# Altium footprint library leadic_footp.PcbLib: 46 footprints (part 3 of 3)
Each footprint in its own frame and in the unit in brackets; x right, y up, seen from the top. Pads: shape width x height; smd on the part's side, far side on the other; paste and mask are expansions set on the pad; w line width, h text height; cw(c..) or ccw(c..) is an arc to the next point about the centre after c.
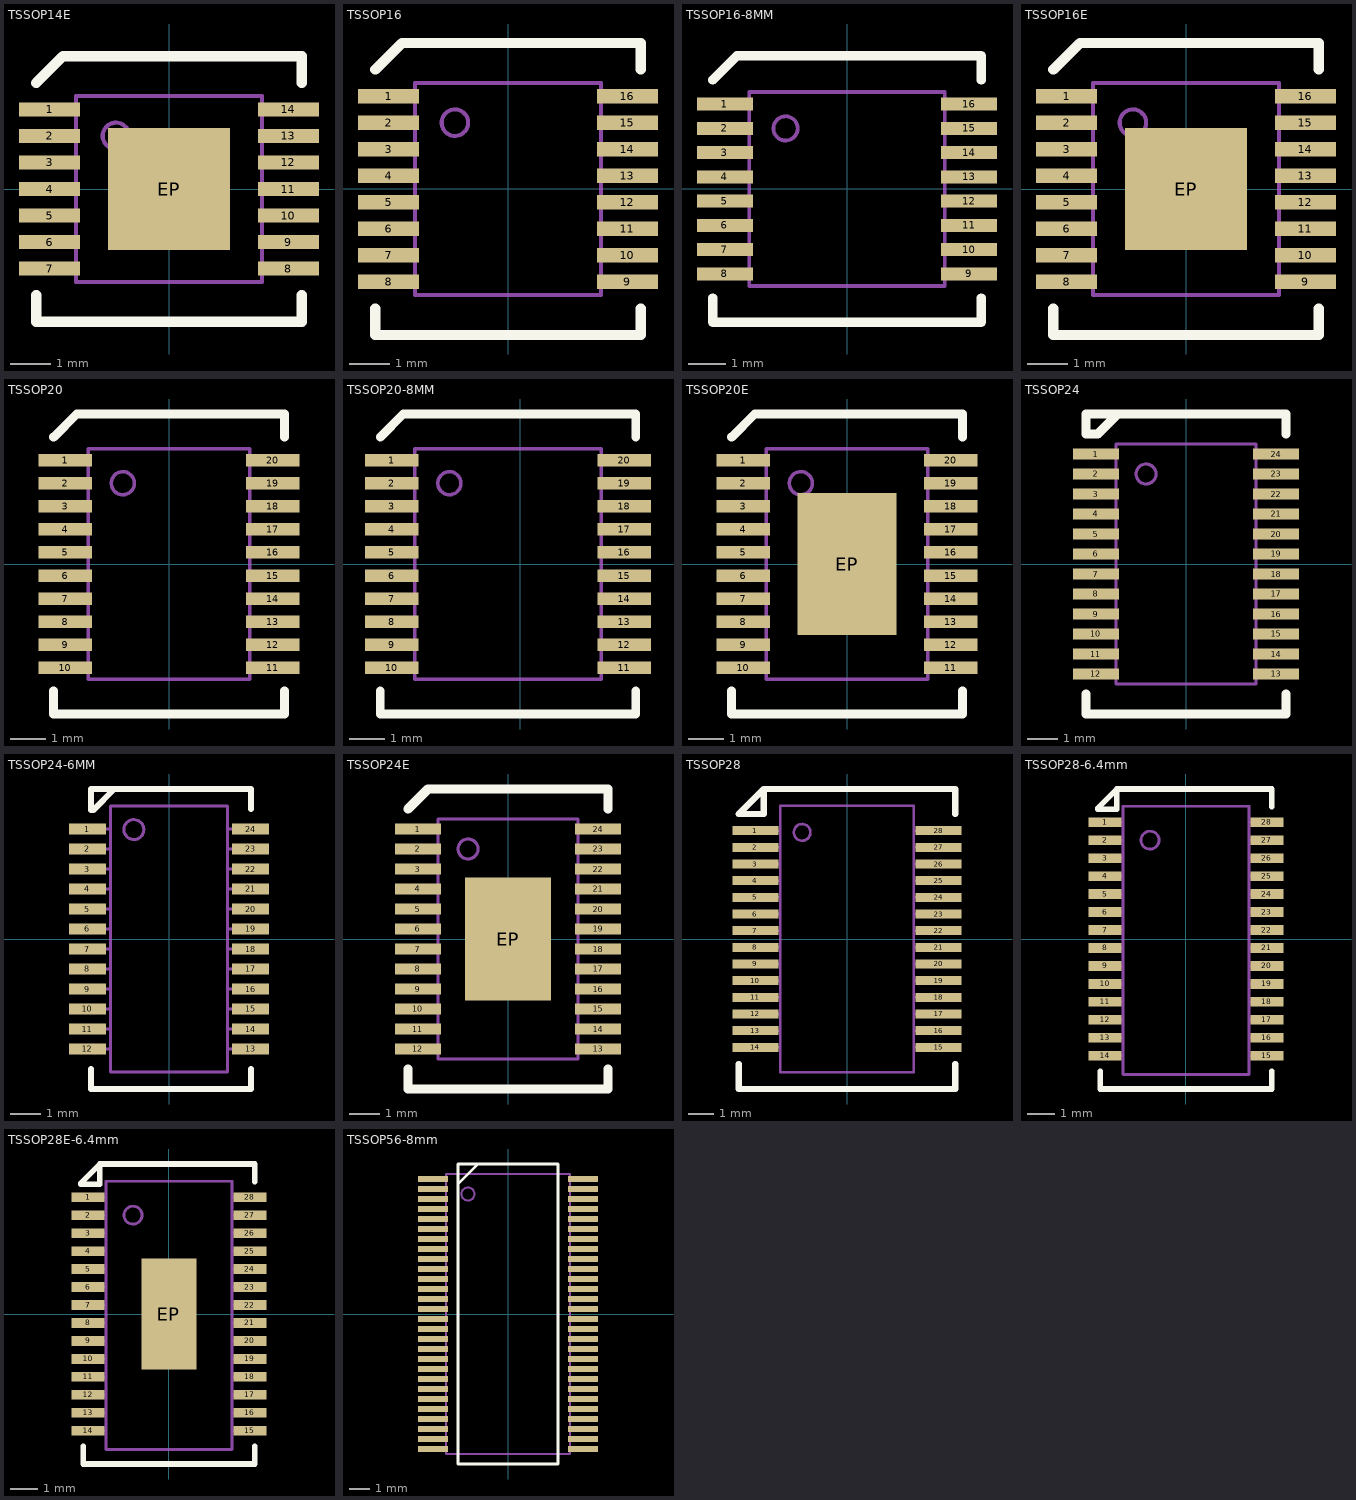
[diagram p2: the footprints below, top view; thin cyan lines are the x and y axes]

## TSSOP14E [mm] "0.65mm pitch"
height 1.2
pads (15):
  rect 1.5x0.35 smd: 1(-2.925,1.95) 2(-2.925,1.3) 3(-2.925,0.65) 4(-2.925,0) 5(-2.925,-0.65) 6(-2.925,-1.3) 7(-2.925,-1.95) 8(2.925,-1.95) 9(2.925,-1.3) 10(2.925,-0.65) 11(2.925,0) 12(2.925,0.65) 13(2.925,1.3) 14(2.925,1.95)
  rect 3x3 smd paste-0.8: EP(0,0)
Top Overlay:
  lines w0.25: -3.25,-2.6 -3.25,-3.25 3.25,-3.25 3.25,-2.6 ; -3.25,2.6 -2.6,3.25 3.25,3.25 3.25,2.6
Mechanical 1:
  circle w0.1: c-1.3,1.3 r0.325
  lines w0.1: -3.25,-1.95 -2.275,-1.95 ; -3.25,-1.3 -2.275,-1.3 ; -3.25,-0.65 -2.275,-0.65 ; -3.25,0 -2.275,0 ; -3.25,0.65 -2.275,0.65 ; -3.25,1.3 -2.275,1.3 ; -3.25,1.95 -2.275,1.95 ; 2.275,-1.95 3.25,-1.95 ; 2.275,-1.3 3.25,-1.3 ; 2.275,-0.65 3.25,-0.65 ; 2.275,0 3.25,0 ; 2.275,0.65 3.25,0.65 ; 2.275,1.3 3.25,1.3 ; 2.275,1.95 3.25,1.95 ; -2.275,-2.275 -2.275,2.275 2.275,2.275 2.275,-2.275 -2.275,-2.275
3D body: height 0.75, standoff 0, extent -3.35,-2.05 -1.652,-1.85
3D body: height 0.75, standoff 0, extent 1.652,-2.05 3.35,-1.85
3D body: height 0.75, standoff 0, extent -3.35,-0.75 -1.652,-0.55
3D body: height 0.75, standoff 0, extent 1.652,-0.75 3.35,-0.55
3D body: height 0.75, standoff 0, extent 1.652,-1.4 3.35,-1.2
3D body: height 0.75, standoff 0, extent -3.35,-1.4 -1.652,-1.2
3D body: height 0.75, standoff 0, extent -3.35,0.55 -1.652,0.75
3D body: height 0.75, standoff 0, extent 1.652,0.55 3.35,0.75
3D body: height 0.75, standoff 0, extent 1.652,-0.1 3.35,0.1
3D body: height 0.75, standoff 0, extent -3.35,-0.1 -1.652,0.1
3D body: height 0.75, standoff 0, extent -3.35,1.85 -1.652,2.05
3D body: height 0.75, standoff 0, extent 1.652,1.85 3.35,2.05
3D body: height 0.75, standoff 0, extent 1.652,1.2 3.35,1.4
3D body: height 0.75, standoff 0, extent -3.35,1.2 -1.652,1.4
3D body: height 1.2, standoff 0.1, extent -2.3,-2.3 2.3,2.3

## TSSOP16 [mm] "0.65mm pitch"
height 1.2
pads (16):
  rect 1.5x0.35 smd: 1(-2.925,2.275) 2(-2.925,1.625) 3(-2.925,0.975) 4(-2.925,0.325) 5(-2.925,-0.325) 6(-2.925,-0.975) 7(-2.925,-1.625) 8(-2.925,-2.275) 9(2.925,-2.275) 10(2.925,-1.625) 11(2.925,-0.975) 12(2.925,-0.325) 13(2.925,0.325) 14(2.925,0.975) 15(2.925,1.625) 16(2.925,2.275)
Top Overlay:
  lines w0.25: -3.25,-2.925 -3.25,-3.575 3.25,-3.575 3.25,-2.925 ; -3.25,2.925 -2.6,3.575 3.25,3.575 3.25,2.925
Mechanical 1:
  circle w0.1: c-1.3,1.625 r0.325
  lines w0.1: -3.25,-2.275 -2.275,-2.275 ; -3.25,-1.625 -2.275,-1.625 ; -3.25,-0.975 -2.275,-0.975 ; -3.25,-0.325 -2.275,-0.325 ; -3.25,0.325 -2.275,0.325 ; -3.25,0.975 -2.275,0.975 ; -3.25,1.625 -2.275,1.625 ; -3.25,2.275 -2.275,2.275 ; 2.275,-2.275 3.25,-2.275 ; 2.275,-1.625 3.25,-1.625 ; 2.275,-0.975 3.25,-0.975 ; 2.275,-0.325 3.25,-0.325 ; 2.275,0.325 3.25,0.325 ; 2.275,0.975 3.25,0.975 ; 2.275,1.625 3.25,1.625 ; 2.275,2.275 3.25,2.275 ; -2.275,-2.6 -2.275,2.6 2.275,2.6 2.275,-2.6 -2.275,-2.6
3D body: height 0.75, standoff 0, extent 1.652,2.175 3.35,2.375
3D body: height 0.75, standoff 0, extent -3.35,2.175 -1.652,2.375
3D body: height 0.75, standoff 0, extent -3.35,0.875 -1.652,1.075
3D body: height 0.75, standoff 0, extent 1.652,0.875 3.35,1.075
3D body: height 0.75, standoff 0, extent 1.652,1.525 3.35,1.725
3D body: height 0.75, standoff 0, extent -3.35,1.525 -1.652,1.725
3D body: height 0.75, standoff 0, extent -3.35,-0.425 -1.652,-0.225
3D body: height 0.75, standoff 0, extent 1.652,-0.425 3.35,-0.225
3D body: height 0.75, standoff 0, extent 1.652,0.225 3.35,0.425
3D body: height 0.75, standoff 0, extent -3.35,0.225 -1.652,0.425
3D body: height 0.75, standoff 0, extent -3.35,-1.725 -1.652,-1.525
3D body: height 0.75, standoff 0, extent 1.652,-1.725 3.35,-1.525
3D body: height 0.75, standoff 0, extent 1.652,-1.075 3.35,-0.875
3D body: height 0.75, standoff 0, extent -3.35,-1.075 -1.652,-0.875
3D body: height 0.75, standoff 0, extent 1.652,-2.375 3.35,-2.175
3D body: height 0.75, standoff 0, extent -3.35,-2.375 -1.652,-2.175
3D body: height 1.2, standoff 0.1, extent -2.3,-2.6 2.3,2.6

## TSSOP16-8MM [mm] "0.65mm pitch"
height 1.2
pads (16):
  rect 1.5x0.35 smd: 1(-3.275,2.275) 2(-3.275,1.625) 3(-3.275,0.975) 4(-3.275,0.325) 5(-3.275,-0.325) 6(-3.275,-0.975) 7(-3.275,-1.625) 8(-3.275,-2.275) 9(3.275,-2.275) 10(3.275,-1.625) 11(3.275,-0.975) 12(3.275,-0.325) 13(3.275,0.325) 14(3.275,0.975) 15(3.275,1.625) 16(3.275,2.275)
Top Overlay:
  lines w0.25: -3.6,-2.925 -3.6,-3.575 3.6,-3.575 3.6,-2.925 ; -3.6,2.925 -2.95,3.575 3.6,3.575 3.6,2.925
Mechanical 1:
  circle w0.1: c-1.65,1.625 r0.325
  lines w0.1: -3.6,-2.275 -2.625,-2.275 ; -3.6,-1.625 -2.625,-1.625 ; -3.6,-0.975 -2.625,-0.975 ; -3.6,-0.325 -2.625,-0.325 ; -3.6,0.325 -2.625,0.325 ; -3.6,0.975 -2.625,0.975 ; -3.6,1.625 -2.625,1.625 ; -3.6,2.275 -2.625,2.275 ; 2.625,-2.275 3.6,-2.275 ; 2.625,-1.625 3.6,-1.625 ; 2.625,-0.975 3.6,-0.975 ; 2.625,-0.325 3.6,-0.325 ; 2.625,0.325 3.6,0.325 ; 2.625,0.975 3.6,0.975 ; 2.625,1.625 3.6,1.625 ; 2.625,2.275 3.6,2.275 ; -2.625,-2.6 2.625,-2.6 2.625,2.6 -2.625,2.6 -2.625,-2.6
3D body: height 1.2, standoff 0.1, extent -2.65,-2.6 2.65,2.6
3D body: height 0.75, standoff 0, extent -3.7,-2.375 -2.002,-2.175
3D body: height 0.75, standoff 0, extent 2.002,-2.375 3.7,-2.175
3D body: height 0.75, standoff 0, extent -3.7,-1.075 -2.002,-0.875
3D body: height 0.75, standoff 0, extent 2.002,-1.075 3.7,-0.875
3D body: height 0.75, standoff 0, extent 2.002,-1.725 3.7,-1.525
3D body: height 0.75, standoff 0, extent -3.7,-1.725 -2.002,-1.525
3D body: height 0.75, standoff 0, extent -3.7,0.225 -2.002,0.425
3D body: height 0.75, standoff 0, extent 2.002,0.225 3.7,0.425
3D body: height 0.75, standoff 0, extent 2.002,-0.425 3.7,-0.225
3D body: height 0.75, standoff 0, extent -3.7,-0.425 -2.002,-0.225
3D body: height 0.75, standoff 0, extent -3.7,1.525 -2.002,1.725
3D body: height 0.75, standoff 0, extent 2.002,1.525 3.7,1.725
3D body: height 0.75, standoff 0, extent 2.002,0.875 3.7,1.075
3D body: height 0.75, standoff 0, extent -3.7,0.875 -2.002,1.075
3D body: height 0.75, standoff 0, extent -3.7,2.175 -2.002,2.375
3D body: height 0.75, standoff 0, extent 2.002,2.175 3.7,2.375

## TSSOP16E [mm] "0.65mm pitch"
height 1.2
pads (17):
  rect 1.5x0.35 smd: 1(-2.925,2.275) 2(-2.925,1.625) 3(-2.925,0.975) 4(-2.925,0.325) 5(-2.925,-0.325) 6(-2.925,-0.975) 7(-2.925,-1.625) 8(-2.925,-2.275) 9(2.925,-2.275) 10(2.925,-1.625) 11(2.925,-0.975) 12(2.925,-0.325) 13(2.925,0.325) 14(2.925,0.975) 15(2.925,1.625) 16(2.925,2.275)
  rect 3x3 smd paste-0.8: EP(0,0)
Top Overlay:
  lines w0.25: -3.25,-2.925 -3.25,-3.575 3.25,-3.575 3.25,-2.925 ; -3.25,2.925 -2.6,3.575 3.25,3.575 3.25,2.925
Mechanical 1:
  circle w0.1: c-1.3,1.625 r0.325
  lines w0.1: -3.25,-2.275 -2.275,-2.275 ; -3.25,-1.625 -2.275,-1.625 ; -3.25,-0.975 -2.275,-0.975 ; -3.25,-0.325 -2.275,-0.325 ; -3.25,0.325 -2.275,0.325 ; -3.25,0.975 -2.275,0.975 ; -3.25,1.625 -2.275,1.625 ; -3.25,2.275 -2.275,2.275 ; 2.275,-2.275 3.25,-2.275 ; 2.275,-1.625 3.25,-1.625 ; 2.275,-0.975 3.25,-0.975 ; 2.275,-0.325 3.25,-0.325 ; 2.275,0.325 3.25,0.325 ; 2.275,0.975 3.25,0.975 ; 2.275,1.625 3.25,1.625 ; 2.275,2.275 3.25,2.275 ; -2.275,-2.6 2.275,-2.6 2.275,2.6 -2.275,2.6 -2.275,-2.6
3D body: height 0.75, standoff 0, extent 1.652,2.175 3.35,2.375
3D body: height 0.75, standoff 0, extent -3.35,2.175 -1.652,2.375
3D body: height 0.75, standoff 0, extent -3.35,0.875 -1.652,1.075
3D body: height 0.75, standoff 0, extent 1.652,0.875 3.35,1.075
3D body: height 0.75, standoff 0, extent 1.652,1.525 3.35,1.725
3D body: height 0.75, standoff 0, extent -3.35,1.525 -1.652,1.725
3D body: height 0.75, standoff 0, extent -3.35,-0.425 -1.652,-0.225
3D body: height 0.75, standoff 0, extent 1.652,-0.425 3.35,-0.225
3D body: height 0.75, standoff 0, extent 1.652,0.225 3.35,0.425
3D body: height 0.75, standoff 0, extent -3.35,0.225 -1.652,0.425
3D body: height 0.75, standoff 0, extent -3.35,-1.725 -1.652,-1.525
3D body: height 0.75, standoff 0, extent 1.652,-1.725 3.35,-1.525
3D body: height 0.75, standoff 0, extent 1.652,-1.075 3.35,-0.875
3D body: height 0.75, standoff 0, extent -3.35,-1.075 -1.652,-0.875
3D body: height 0.75, standoff 0, extent 1.652,-2.375 3.35,-2.175
3D body: height 0.75, standoff 0, extent -3.35,-2.375 -1.652,-2.175
3D body: height 1.2, standoff 0.1, extent -2.3,-2.6 2.3,2.6

## TSSOP20 [mm] "0.65mm pitch"
height 1.2
pads (20):
  rect 1.5x0.35 smd: 1(-2.925,2.925) 2(-2.925,2.275) 3(-2.925,1.625) 4(-2.925,0.975) 5(-2.925,0.325) 6(-2.925,-0.325) 7(-2.925,-0.975) 8(-2.925,-1.625) 9(-2.925,-2.275) 10(-2.925,-2.925) 11(2.925,-2.925) 12(2.925,-2.275) 13(2.925,-1.625) 14(2.925,-0.975) 15(2.925,-0.325) 16(2.925,0.325) 17(2.925,0.975) 18(2.925,1.625) 19(2.925,2.275) 20(2.925,2.925)
Top Overlay:
  lines w0.25: -3.25,-3.575 -3.25,-4.225 3.25,-4.225 3.25,-3.575 ; -3.25,3.575 -2.6,4.225 3.25,4.225 3.25,3.575
Mechanical 1:
  circle w0.1: c-1.3,2.275 r0.325
  lines w0.1: -3.25,-2.925 -2.275,-2.925 ; -3.25,-2.275 -2.275,-2.275 ; -3.25,-1.625 -2.275,-1.625 ; -3.25,-0.975 -2.275,-0.975 ; -3.25,-0.325 -2.275,-0.325 ; -3.25,0.325 -2.275,0.325 ; -3.25,0.975 -2.275,0.975 ; -3.25,1.625 -2.275,1.625 ; -3.25,2.275 -2.275,2.275 ; -3.25,2.925 -2.275,2.925 ; 2.275,-2.925 3.25,-2.925 ; 2.275,-2.275 3.25,-2.275 ; 2.275,-1.625 3.25,-1.625 ; 2.275,-0.975 3.25,-0.975 ; 2.275,-0.325 3.25,-0.325 ; 2.275,0.325 3.25,0.325 ; 2.275,0.975 3.25,0.975 ; 2.275,1.625 3.25,1.625 ; 2.275,2.275 3.25,2.275 ; 2.275,2.925 3.25,2.925 ; -2.275,-3.25 2.275,-3.25 2.275,3.25 -2.275,3.25 -2.275,-3.25
3D body: height 1.2, standoff 0.1, extent -2.3,-3.3 2.3,3.3
3D body: height 0.75, standoff 0, extent -3.35,2.825 -1.652,3.025
3D body: height 0.75, standoff 0, extent 1.652,2.825 3.35,3.025
3D body: height 0.75, standoff 0, extent 1.652,2.175 3.35,2.375
3D body: height 0.75, standoff 0, extent -3.35,2.175 -1.652,2.375
3D body: height 0.75, standoff 0, extent -3.35,0.875 -1.652,1.075
3D body: height 0.75, standoff 0, extent 1.652,0.875 3.35,1.075
3D body: height 0.75, standoff 0, extent 1.652,1.525 3.35,1.725
3D body: height 0.75, standoff 0, extent -3.35,1.525 -1.652,1.725
3D body: height 0.75, standoff 0, extent -3.35,-0.425 -1.652,-0.225
3D body: height 0.75, standoff 0, extent 1.652,-0.425 3.35,-0.225
3D body: height 0.75, standoff 0, extent 1.652,0.225 3.35,0.425
3D body: height 0.75, standoff 0, extent -3.35,0.225 -1.652,0.425
3D body: height 0.75, standoff 0, extent -3.35,-1.725 -1.652,-1.525
3D body: height 0.75, standoff 0, extent 1.652,-1.725 3.35,-1.525
3D body: height 0.75, standoff 0, extent 1.652,-1.075 3.35,-0.875
3D body: height 0.75, standoff 0, extent -3.35,-1.075 -1.652,-0.875
3D body: height 0.75, standoff 0, extent -3.35,-3.025 -1.652,-2.825
3D body: height 0.75, standoff 0, extent 1.652,-3.025 3.35,-2.825
3D body: height 0.75, standoff 0, extent 1.652,-2.375 3.35,-2.175
3D body: height 0.75, standoff 0, extent -3.35,-2.375 -1.652,-2.175

## TSSOP20-8MM [mm] "0.65mm pitch"
height 1.2
pads (20):
  rect 1.5x0.35 smd: 1(-3.625,2.925) 2(-3.625,2.275) 3(-3.625,1.625) 4(-3.625,0.975) 5(-3.625,0.325) 6(-3.625,-0.325) 7(-3.625,-0.975) 8(-3.625,-1.625) 9(-3.625,-2.275) 10(-3.625,-2.925) 11(2.925,-2.925) 12(2.925,-2.275) 13(2.925,-1.625) 14(2.925,-0.975) 15(2.925,-0.325) 16(2.925,0.325) 17(2.925,0.975) 18(2.925,1.625) 19(2.925,2.275) 20(2.925,2.925)
Top Overlay:
  lines w0.25: -3.95,-3.575 -3.95,-4.225 3.25,-4.225 3.25,-3.575 ; -3.95,3.575 -3.3,4.225 3.25,4.225 3.25,3.575
Mechanical 1:
  circle w0.1: c-2,2.275 r0.325
  lines w0.1: -3.95,-2.925 -2.975,-2.925 ; -3.95,-2.275 -2.975,-2.275 ; -3.95,-1.625 -2.975,-1.625 ; -3.95,-0.975 -2.975,-0.975 ; -3.95,-0.325 -2.975,-0.325 ; -3.95,0.325 -2.975,0.325 ; -3.95,0.975 -2.975,0.975 ; -3.95,1.625 -2.975,1.625 ; -3.95,2.275 -2.975,2.275 ; -3.95,2.925 -2.975,2.925 ; 2.275,-2.925 3.25,-2.925 ; 2.275,-2.275 3.25,-2.275 ; 2.275,-1.625 3.25,-1.625 ; 2.275,-0.975 3.25,-0.975 ; 2.275,-0.325 3.25,-0.325 ; 2.275,0.325 3.25,0.325 ; 2.275,0.975 3.25,0.975 ; 2.275,1.625 3.25,1.625 ; 2.275,2.275 3.25,2.275 ; 2.275,2.925 3.25,2.925 ; -2.975,-3.25 2.275,-3.25 2.275,3.25 -2.975,3.25 -2.975,-3.25
3D body: height 0.75, standoff 0, extent 1.652,-2.375 3.35,-2.175
3D body: height 0.75, standoff 0, extent 1.652,-3.025 3.35,-2.825
3D body: height 0.75, standoff 0, extent 1.652,-1.075 3.35,-0.875
3D body: height 0.75, standoff 0, extent 1.652,-1.725 3.35,-1.525
3D body: height 0.75, standoff 0, extent 1.652,0.225 3.35,0.425
3D body: height 0.75, standoff 0, extent 1.652,-0.425 3.35,-0.225
3D body: height 0.75, standoff 0, extent 1.652,1.525 3.35,1.725
3D body: height 0.75, standoff 0, extent 1.652,0.875 3.35,1.075
3D body: height 0.75, standoff 0, extent 1.652,2.175 3.35,2.375
3D body: height 0.75, standoff 0, extent 1.652,2.825 3.35,3.025
3D body: height 0.75, standoff 0, extent -4.05,2.825 -2.352,3.025
3D body: height 0.75, standoff 0, extent -4.05,2.175 -2.352,2.375
3D body: height 0.75, standoff 0, extent -4.05,0.875 -2.352,1.075
3D body: height 0.75, standoff 0, extent -4.05,1.525 -2.352,1.725
3D body: height 0.75, standoff 0, extent -4.05,-0.425 -2.352,-0.225
3D body: height 0.75, standoff 0, extent -4.05,0.225 -2.352,0.425
3D body: height 0.75, standoff 0, extent -4.05,-1.725 -2.352,-1.525
3D body: height 0.75, standoff 0, extent -4.05,-1.075 -2.352,-0.875
3D body: height 0.75, standoff 0, extent -4.05,-3.025 -2.352,-2.825
3D body: height 0.75, standoff 0, extent -4.05,-2.375 -2.352,-2.175
3D body: height 1.2, standoff 0.1, extent -3,-3.3 2.3,3.3

## TSSOP20E [mm] "0.65mm pitch"
height 1.2
pads (21):
  rect 1.5x0.35 smd: 1(-2.925,2.925) 2(-2.925,2.275) 3(-2.925,1.625) 4(-2.925,0.975) 5(-2.925,0.325) 6(-2.925,-0.325) 7(-2.925,-0.975) 8(-2.925,-1.625) 9(-2.925,-2.275) 10(-2.925,-2.925) 11(2.925,-2.925) 12(2.925,-2.275) 13(2.925,-1.625) 14(2.925,-0.975) 15(2.925,-0.325) 16(2.925,0.325) 17(2.925,0.975) 18(2.925,1.625) 19(2.925,2.275) 20(2.925,2.925)
  rect 2.8x4 smd paste-0.8: EP(0,0)
Top Overlay:
  lines w0.25: -3.25,-3.575 -3.25,-4.225 3.25,-4.225 3.25,-3.575 ; -3.25,3.575 -2.6,4.225 3.25,4.225 3.25,3.575
Mechanical 1:
  circle w0.1: c-1.3,2.275 r0.325
  lines w0.1: -3.25,-2.925 -2.275,-2.925 ; -3.25,-2.275 -2.275,-2.275 ; -3.25,-1.625 -2.275,-1.625 ; -3.25,-0.975 -2.275,-0.975 ; -3.25,-0.325 -2.275,-0.325 ; -3.25,0.325 -2.275,0.325 ; -3.25,0.975 -2.275,0.975 ; -3.25,1.625 -2.275,1.625 ; -3.25,2.275 -2.275,2.275 ; -3.25,2.925 -2.275,2.925 ; 2.275,-2.925 3.25,-2.925 ; 2.275,-2.275 3.25,-2.275 ; 2.275,-1.625 3.25,-1.625 ; 2.275,-0.975 3.25,-0.975 ; 2.275,-0.325 3.25,-0.325 ; 2.275,0.325 3.25,0.325 ; 2.275,0.975 3.25,0.975 ; 2.275,1.625 3.25,1.625 ; 2.275,2.275 3.25,2.275 ; 2.275,2.925 3.25,2.925 ; -2.275,-3.25 2.275,-3.25 2.275,3.25 -2.275,3.25 -2.275,-3.25
3D body: height 0.75, standoff 0, extent -3.35,-2.375 -1.652,-2.175
3D body: height 0.75, standoff 0, extent 1.652,-2.375 3.35,-2.175
3D body: height 0.75, standoff 0, extent 1.652,-3.025 3.35,-2.825
3D body: height 0.75, standoff 0, extent -3.35,-3.025 -1.652,-2.825
3D body: height 0.75, standoff 0, extent -3.35,-1.075 -1.652,-0.875
3D body: height 0.75, standoff 0, extent 1.652,-1.075 3.35,-0.875
3D body: height 0.75, standoff 0, extent 1.652,-1.725 3.35,-1.525
3D body: height 0.75, standoff 0, extent -3.35,-1.725 -1.652,-1.525
3D body: height 0.75, standoff 0, extent -3.35,0.225 -1.652,0.425
3D body: height 0.75, standoff 0, extent 1.652,0.225 3.35,0.425
3D body: height 0.75, standoff 0, extent 1.652,-0.425 3.35,-0.225
3D body: height 0.75, standoff 0, extent -3.35,-0.425 -1.652,-0.225
3D body: height 0.75, standoff 0, extent -3.35,1.525 -1.652,1.725
3D body: height 0.75, standoff 0, extent 1.652,1.525 3.35,1.725
3D body: height 0.75, standoff 0, extent 1.652,0.875 3.35,1.075
3D body: height 0.75, standoff 0, extent -3.35,0.875 -1.652,1.075
3D body: height 0.75, standoff 0, extent -3.35,2.175 -1.652,2.375
3D body: height 0.75, standoff 0, extent 1.652,2.175 3.35,2.375
3D body: height 0.75, standoff 0, extent 1.652,2.825 3.35,3.025
3D body: height 0.75, standoff 0, extent -3.35,2.825 -1.652,3.025
3D body: height 1.2, standoff 0.1, extent -2.3,-3.3 2.3,3.3

## TSSOP24 [mm] "0.65mm pitch"
height 1.2
pads (24):
  rect 1.5x0.35 smd: 1(-2.925,3.575) 2(-2.925,2.925) 3(-2.925,2.275) 4(-2.925,1.625) 5(-2.925,0.975) 6(-2.925,0.325) 7(-2.925,-0.325) 8(-2.925,-0.975) 9(-2.925,-1.625) 10(-2.925,-2.275) 11(-2.925,-2.925) 12(-2.925,-3.575) 13(2.925,-3.575) 14(2.925,-2.925) 15(2.925,-2.275) 16(2.925,-1.625) 17(2.925,-0.975) 18(2.925,-0.325) 19(2.925,0.325) 20(2.925,0.975) 21(2.925,1.625) 22(2.925,2.275) 23(2.925,2.925) 24(2.925,3.575)
Top Overlay:
  lines w0.3: -3.25,-4.225 -3.25,-4.875 3.25,-4.875 3.25,-4.225 ; -2.6,4.875 3.25,4.875 3.25,4.225 ; -2.54,4.875 -3.253,4.875 -3.25,4.872 -3.25,4.225 -2.869,4.225 -2.219,4.875
Mechanical 1:
  circle w0.1: c-1.3,2.925 r0.325
  lines w0.1: -3.25,-3.575 -2.275,-3.575 ; -3.25,-2.925 -2.275,-2.925 ; -3.25,-2.275 -2.275,-2.275 ; -3.25,-1.625 -2.275,-1.625 ; -3.25,-0.975 -2.275,-0.975 ; -3.25,-0.325 -2.275,-0.325 ; -3.25,0.325 -2.275,0.325 ; -3.25,0.975 -2.275,0.975 ; -3.25,1.625 -2.275,1.625 ; -3.25,2.275 -2.275,2.275 ; -3.25,2.925 -2.275,2.925 ; -3.25,3.575 -2.275,3.575 ; 2.275,-3.575 3.25,-3.575 ; 2.275,-2.925 3.25,-2.925 ; 2.275,-2.275 3.25,-2.275 ; 2.275,-1.625 3.25,-1.625 ; 2.275,-0.975 3.25,-0.975 ; 2.275,-0.325 3.25,-0.325 ; 2.275,0.325 3.25,0.325 ; 2.275,0.975 3.25,0.975 ; 2.275,1.625 3.25,1.625 ; 2.275,2.275 3.25,2.275 ; 2.275,2.925 3.25,2.925 ; 2.275,3.575 3.25,3.575 ; -2.275,-3.9 -2.275,3.9 2.275,3.9 2.275,-3.9 -2.275,-3.9
3D body: height 1.2, standoff 0.1, extent -2.3,-3.9 2.3,3.9
3D body: height 0.75, standoff 0, extent 1.652,-3.675 3.35,-3.475
3D body: height 0.75, standoff 0, extent -3.35,-3.675 -1.652,-3.475
3D body: height 0.75, standoff 0, extent 1.652,3.475 3.35,3.675
3D body: height 0.75, standoff 0, extent -3.35,3.475 -1.652,3.675
3D body: height 0.75, standoff 0, extent -3.35,2.825 -1.652,3.025
3D body: height 0.75, standoff 0, extent 1.652,2.825 3.35,3.025
3D body: height 0.75, standoff 0, extent 1.652,2.175 3.35,2.375
3D body: height 0.75, standoff 0, extent -3.35,2.175 -1.652,2.375
3D body: height 0.75, standoff 0, extent -3.35,0.875 -1.652,1.075
3D body: height 0.75, standoff 0, extent 1.652,0.875 3.35,1.075
3D body: height 0.75, standoff 0, extent 1.652,1.525 3.35,1.725
3D body: height 0.75, standoff 0, extent -3.35,1.525 -1.652,1.725
3D body: height 0.75, standoff 0, extent -3.35,-0.425 -1.652,-0.225
3D body: height 0.75, standoff 0, extent 1.652,-0.425 3.35,-0.225
3D body: height 0.75, standoff 0, extent 1.652,0.225 3.35,0.425
3D body: height 0.75, standoff 0, extent -3.35,0.225 -1.652,0.425
3D body: height 0.75, standoff 0, extent -3.35,-1.725 -1.652,-1.525
3D body: height 0.75, standoff 0, extent 1.652,-1.725 3.35,-1.525
3D body: height 0.75, standoff 0, extent 1.652,-1.075 3.35,-0.875
3D body: height 0.75, standoff 0, extent -3.35,-1.075 -1.652,-0.875
3D body: height 0.75, standoff 0, extent -3.35,-3.025 -1.652,-2.825
3D body: height 0.75, standoff 0, extent 1.652,-3.025 3.35,-2.825
3D body: height 0.75, standoff 0, extent 1.652,-2.375 3.35,-2.175
3D body: height 0.75, standoff 0, extent -3.35,-2.375 -1.652,-2.175

## TSSOP24-6MM [mm] "0.65mm pitch"
height 1.2
pads (24):
  rect 1.2x0.35 smd: 1(-2.65,3.575) 2(-2.65,2.925) 3(-2.65,2.275) 4(-2.65,1.625) 5(-2.65,0.975) 6(-2.65,0.325) 7(-2.65,-0.325) 8(-2.65,-0.975) 9(-2.65,-1.625) 10(-2.65,-2.275) 11(-2.65,-2.925) 12(-2.65,-3.575) 13(2.65,-3.575) 14(2.65,-2.925) 15(2.65,-2.275) 16(2.65,-1.625) 17(2.65,-0.975) 18(2.65,-0.325) 19(2.65,0.325) 20(2.65,0.975) 21(2.65,1.625) 22(2.65,2.275) 23(2.65,2.925) 24(2.65,3.575)
Top Overlay:
  lines w0.2: -2.54,-4.225 -2.54,-4.875 2.667,-4.875 2.667,-4.225 ; -2.54,4.191 -2.462,4.191 -1.778,4.875 ; -2.54,4.225 -2.54,4.875 2.667,4.875 2.667,4.225
Mechanical 1:
  circle w0.1: c-1.143,3.556 r0.325
  lines w0.1: -2.88,-3.575 -1.905,-3.575 ; -2.88,-2.925 -1.905,-2.925 ; -2.88,-2.275 -1.905,-2.275 ; -2.88,-1.625 -1.905,-1.625 ; -2.88,-0.975 -1.905,-0.975 ; -2.88,-0.325 -1.905,-0.325 ; -2.88,0.325 -1.905,0.325 ; -2.88,0.975 -1.905,0.975 ; -2.88,1.625 -1.905,1.625 ; -2.88,2.275 -1.905,2.275 ; -2.88,2.925 -1.905,2.925 ; -2.88,3.575 -1.905,3.575 ; 1.905,-3.575 2.88,-3.575 ; 1.905,-2.925 2.88,-2.925 ; 1.905,-2.275 2.88,-2.275 ; 1.905,-1.625 2.88,-1.625 ; 1.905,-0.975 2.88,-0.975 ; 1.905,-0.325 2.88,-0.325 ; 1.905,0.325 2.88,0.325 ; 1.905,0.975 2.88,0.975 ; 1.905,1.625 2.88,1.625 ; 1.905,2.275 2.88,2.275 ; 1.905,2.925 2.88,2.925 ; 1.905,3.575 2.88,3.575 ; -1.905,-4.318 1.905,-4.318 1.905,4.318 -1.905,4.318 -1.905,-4.318
3D body: height 0.75, standoff 0, extent -2.969,-2.375 -1.271,-2.175
3D body: height 0.75, standoff 0, extent 1.271,-2.375 2.969,-2.175
3D body: height 0.75, standoff 0, extent 1.271,-3.025 2.969,-2.825
3D body: height 0.75, standoff 0, extent -2.969,-3.025 -1.271,-2.825
3D body: height 0.75, standoff 0, extent -2.969,-1.075 -1.271,-0.875
3D body: height 0.75, standoff 0, extent 1.271,-1.075 2.969,-0.875
3D body: height 0.75, standoff 0, extent 1.271,-1.725 2.969,-1.525
3D body: height 0.75, standoff 0, extent -2.969,-1.725 -1.271,-1.525
3D body: height 0.75, standoff 0, extent -2.969,0.225 -1.271,0.425
3D body: height 0.75, standoff 0, extent 1.271,0.225 2.969,0.425
3D body: height 0.75, standoff 0, extent 1.271,-0.425 2.969,-0.225
3D body: height 0.75, standoff 0, extent -2.969,-0.425 -1.271,-0.225
3D body: height 0.75, standoff 0, extent -2.969,1.525 -1.271,1.725
3D body: height 0.75, standoff 0, extent 1.271,1.525 2.969,1.725
3D body: height 0.75, standoff 0, extent 1.271,0.875 2.969,1.075
3D body: height 0.75, standoff 0, extent -2.969,0.875 -1.271,1.075
3D body: height 0.75, standoff 0, extent -2.969,2.175 -1.271,2.375
3D body: height 0.75, standoff 0, extent 1.271,2.175 2.969,2.375
3D body: height 0.75, standoff 0, extent 1.271,2.825 2.969,3.025
3D body: height 0.75, standoff 0, extent -2.969,2.825 -1.271,3.025
3D body: height 0.75, standoff 0, extent -2.969,3.475 -1.271,3.675
3D body: height 0.75, standoff 0, extent 1.271,3.475 2.969,3.675
3D body: height 0.75, standoff 0, extent -2.969,-3.675 -1.271,-3.475
3D body: height 0.75, standoff 0, extent 1.271,-3.675 2.969,-3.475
3D body: height 1.2, standoff 0.1, extent -1.905,-4.318 1.905,4.318

## TSSOP24E [mm] "0.65mm pitch"
height 1.2
pads (25):
  rect 1.5x0.35 smd: 1(-2.925,3.575) 2(-2.925,2.925) 3(-2.925,2.275) 4(-2.925,1.625) 5(-2.925,0.975) 6(-2.925,0.325) 7(-2.925,-0.325) 8(-2.925,-0.975) 9(-2.925,-1.625) 10(-2.925,-2.275) 11(-2.925,-2.925) 12(-2.925,-3.575) 13(2.925,-3.575) 14(2.925,-2.925) 15(2.925,-2.275) 16(2.925,-1.625) 17(2.925,-0.975) 18(2.925,-0.325) 19(2.925,0.325) 20(2.925,0.975) 21(2.925,1.625) 22(2.925,2.275) 23(2.925,2.925) 24(2.925,3.575)
  rect 2.8x4 smd paste-0.8: EP(0,0)
Top Overlay:
  lines w0.3: -3.25,-4.225 -3.25,-4.875 3.25,-4.875 3.25,-4.225 ; -3.25,4.225 -2.6,4.875 3.25,4.875 3.25,4.225
Mechanical 1:
  circle w0.1: c-1.3,2.925 r0.325
  lines w0.1: -3.25,-3.575 -2.275,-3.575 ; -3.25,-2.925 -2.275,-2.925 ; -3.25,-2.275 -2.275,-2.275 ; -3.25,-1.625 -2.275,-1.625 ; -3.25,-0.975 -2.275,-0.975 ; -3.25,-0.325 -2.275,-0.325 ; -3.25,0.325 -2.275,0.325 ; -3.25,0.975 -2.275,0.975 ; -3.25,1.625 -2.275,1.625 ; -3.25,2.275 -2.275,2.275 ; -3.25,2.925 -2.275,2.925 ; -3.25,3.575 -2.275,3.575 ; 2.275,-3.575 3.25,-3.575 ; 2.275,-2.925 3.25,-2.925 ; 2.275,-2.275 3.25,-2.275 ; 2.275,-1.625 3.25,-1.625 ; 2.275,-0.975 3.25,-0.975 ; 2.275,-0.325 3.25,-0.325 ; 2.275,0.325 3.25,0.325 ; 2.275,0.975 3.25,0.975 ; 2.275,1.625 3.25,1.625 ; 2.275,2.275 3.25,2.275 ; 2.275,2.925 3.25,2.925 ; 2.275,3.575 3.25,3.575 ; -2.275,-3.9 -2.275,3.9 2.275,3.9 2.275,-3.9 -2.275,-3.9
3D body: height 0.75, standoff 0, extent 1.652,-3.675 3.35,-3.475
3D body: height 0.75, standoff 0, extent -3.35,-3.675 -1.652,-3.475
3D body: height 0.75, standoff 0, extent 1.652,3.475 3.35,3.675
3D body: height 0.75, standoff 0, extent -3.35,3.475 -1.652,3.675
3D body: height 0.75, standoff 0, extent -3.35,2.825 -1.652,3.025
3D body: height 0.75, standoff 0, extent 1.652,2.825 3.35,3.025
3D body: height 0.75, standoff 0, extent 1.652,2.175 3.35,2.375
3D body: height 0.75, standoff 0, extent -3.35,2.175 -1.652,2.375
3D body: height 0.75, standoff 0, extent -3.35,0.875 -1.652,1.075
3D body: height 0.75, standoff 0, extent 1.652,0.875 3.35,1.075
3D body: height 0.75, standoff 0, extent 1.652,1.525 3.35,1.725
3D body: height 0.75, standoff 0, extent -3.35,1.525 -1.652,1.725
3D body: height 0.75, standoff 0, extent -3.35,-0.425 -1.652,-0.225
3D body: height 0.75, standoff 0, extent 1.652,-0.425 3.35,-0.225
3D body: height 0.75, standoff 0, extent 1.652,0.225 3.35,0.425
3D body: height 0.75, standoff 0, extent -3.35,0.225 -1.652,0.425
3D body: height 0.75, standoff 0, extent -3.35,-1.725 -1.652,-1.525
3D body: height 0.75, standoff 0, extent 1.652,-1.725 3.35,-1.525
3D body: height 0.75, standoff 0, extent 1.652,-1.075 3.35,-0.875
3D body: height 0.75, standoff 0, extent -3.35,-1.075 -1.652,-0.875
3D body: height 0.75, standoff 0, extent -3.35,-3.025 -1.652,-2.825
3D body: height 0.75, standoff 0, extent 1.652,-3.025 3.35,-2.825
3D body: height 0.75, standoff 0, extent 1.652,-2.375 3.35,-2.175
3D body: height 0.75, standoff 0, extent -3.35,-2.375 -1.652,-2.175
3D body: height 1.2, standoff 0.1, extent -2.3,-3.9 2.3,3.9

## TSSOP28 [mm] "0.65mm pitch"
height 1.2
pads (28):
  rect 1.8x0.35 smd: 1(-3.575,4.225) 2(-3.575,3.575) 3(-3.575,2.925) 4(-3.575,2.275) 5(-3.575,1.625) 6(-3.575,0.975) 7(-3.575,0.325) 8(-3.575,-0.325) 9(-3.575,-0.975) 10(-3.575,-1.625) 11(-3.575,-2.275) 12(-3.575,-2.925) 13(-3.575,-3.575) 14(-3.575,-4.225) 15(3.575,-4.225) 16(3.575,-3.575) 17(3.575,-2.925) 18(3.575,-2.275) 19(3.575,-1.625) 20(3.575,-0.975) 21(3.575,-0.325) 22(3.575,0.325) 23(3.575,0.975) 24(3.575,1.625) 25(3.575,2.275) 26(3.575,2.925) 27(3.575,3.575) 28(3.575,4.225)
Top Overlay:
  lines w0.25: -4.225,-4.875 -4.225,-5.85 4.225,-5.85 4.225,-4.875 ; 4.225,4.875 4.225,5.85 -3.25,5.85 ; -3.25,5.85 -4.225,4.875 -3.25,4.875 -3.25,5.85
Mechanical 1:
  circle w0.1: c-1.75,4.16 r0.325
  lines w0.1: -3.9,-4.225 -2.6,-4.225 ; -3.9,-3.575 -2.6,-3.575 ; -3.9,-2.925 -2.6,-2.925 ; -3.9,-2.275 -2.6,-2.275 ; -3.9,-1.625 -2.6,-1.625 ; -3.9,-0.975 -2.6,-0.975 ; -3.9,-0.325 -2.6,-0.325 ; -3.9,0.325 -2.6,0.325 ; -3.9,0.975 -2.6,0.975 ; -3.9,1.625 -2.6,1.625 ; -3.9,2.275 -2.6,2.275 ; -3.9,2.925 -2.6,2.925 ; -3.9,3.575 -2.6,3.575 ; -3.9,4.225 -2.6,4.225 ; 2.6,-4.225 3.9,-4.225 ; 2.6,-3.575 3.9,-3.575 ; 2.6,-2.925 3.9,-2.925 ; 2.6,-2.275 3.9,-2.275 ; 2.6,-1.625 3.9,-1.625 ; 2.6,-0.975 3.9,-0.975 ; 2.6,-0.325 3.9,-0.325 ; 2.6,0.325 3.9,0.325 ; 2.6,0.975 3.9,0.975 ; 2.6,1.625 3.9,1.625 ; 2.6,2.275 3.9,2.275 ; 2.6,2.925 3.9,2.925 ; 2.6,3.575 3.9,3.575 ; 2.6,4.225 3.9,4.225 ; -2.6,-5.2 2.6,-5.2 2.6,5.2 -2.6,5.2 -2.6,-5.2
3D body: height 0.75, standoff 0, extent -3.9,-2.375 -2.202,-2.175
3D body: height 0.75, standoff 0, extent 2.202,-2.375 3.9,-2.175
3D body: height 0.75, standoff 0, extent 2.202,-3.025 3.9,-2.825
3D body: height 0.75, standoff 0, extent -3.9,-3.025 -2.202,-2.825
3D body: height 0.75, standoff 0, extent -3.9,-1.075 -2.202,-0.875
3D body: height 0.75, standoff 0, extent 2.202,-1.075 3.9,-0.875
3D body: height 0.75, standoff 0, extent 2.202,-1.725 3.9,-1.525
3D body: height 0.75, standoff 0, extent -3.9,-1.725 -2.202,-1.525
3D body: height 0.75, standoff 0, extent -3.9,0.225 -2.202,0.425
3D body: height 0.75, standoff 0, extent 2.202,0.225 3.9,0.425
3D body: height 0.75, standoff 0, extent 2.202,-0.425 3.9,-0.225
3D body: height 0.75, standoff 0, extent -3.9,-0.425 -2.202,-0.225
3D body: height 0.75, standoff 0, extent -3.9,1.525 -2.202,1.725
3D body: height 0.75, standoff 0, extent 2.202,1.525 3.9,1.725
3D body: height 0.75, standoff 0, extent 2.202,0.875 3.9,1.075
3D body: height 0.75, standoff 0, extent -3.9,0.875 -2.202,1.075
3D body: height 0.75, standoff 0, extent -3.9,2.175 -2.202,2.375
3D body: height 0.75, standoff 0, extent 2.202,2.175 3.9,2.375
3D body: height 0.75, standoff 0, extent 2.202,2.825 3.9,3.025
3D body: height 0.75, standoff 0, extent -3.9,2.825 -2.202,3.025
3D body: height 0.75, standoff 0, extent -3.9,4.125 -2.202,4.325
3D body: height 0.75, standoff 0, extent 2.202,4.125 3.9,4.325
3D body: height 0.75, standoff 0, extent 2.202,3.475 3.9,3.675
3D body: height 0.75, standoff 0, extent -3.9,3.475 -2.202,3.675
3D body: height 0.75, standoff 0, extent -3.9,-3.675 -2.202,-3.475
3D body: height 0.75, standoff 0, extent 2.202,-3.675 3.9,-3.475
3D body: height 0.75, standoff 0, extent 2.202,-4.325 3.9,-4.125
3D body: height 0.75, standoff 0, extent -3.9,-4.325 -2.202,-4.125
3D body: height 1.2, standoff 0.1, extent -2.6,-5.2 2.6,5.2

## TSSOP28-6.4mm [mm] "0.65mm pitch"
height 1.2
pads (28):
  rect 1.2x0.35 smd: 1(-2.925,4.225) 2(-2.925,3.575) 3(-2.925,2.925) 4(-2.925,2.275) 5(-2.925,1.625) 6(-2.925,0.975) 7(-2.925,0.325) 8(-2.925,-0.325) 9(-2.925,-0.975) 10(-2.925,-1.625) 11(-2.925,-2.275) 12(-2.925,-2.925) 13(-2.925,-3.575) 14(-2.925,-4.225) 15(2.925,-4.225) 16(2.925,-3.575) 17(2.925,-2.925) 18(2.925,-2.275) 19(2.925,-1.625) 20(2.925,-0.975) 21(2.925,-0.325) 22(2.925,0.325) 23(2.925,0.975) 24(2.925,1.625) 25(2.925,2.275) 26(2.925,2.925) 27(2.925,3.575) 28(2.925,4.225)
Top Overlay:
  lines w0.2: -3.1,-4.775 -3.1,-5.425 3.1,-5.425 3.1,-4.775 ; 3.1,4.775 3.1,5.425 -2.5,5.425 ; -2.5,5.425 -2.5,5.425 -2.5,4.7 -3.2,4.7 -3.2,4.725 -2.5,5.425
Mechanical 1:
  circle w0.1: c-1.3,3.575 r0.325
  lines w0.1: -3.25,-4.225 -2.275,-4.225 ; -3.25,-3.575 -2.275,-3.575 ; -3.25,-2.925 -2.275,-2.925 ; -3.25,-2.275 -2.275,-2.275 ; -3.25,-1.625 -2.275,-1.625 ; -3.25,-0.975 -2.275,-0.975 ; -3.25,-0.325 -2.275,-0.325 ; -3.25,0.325 -2.275,0.325 ; -3.25,0.975 -2.275,0.975 ; -3.25,1.625 -2.275,1.625 ; -3.25,2.275 -2.275,2.275 ; -3.25,2.925 -2.275,2.925 ; -3.25,3.575 -2.275,3.575 ; -3.25,4.225 -2.275,4.225 ; 2.275,-4.225 3.25,-4.225 ; 2.275,-3.575 3.25,-3.575 ; 2.275,-2.925 3.25,-2.925 ; 2.275,-2.275 3.25,-2.275 ; 2.275,-1.625 3.25,-1.625 ; 2.275,-0.975 3.25,-0.975 ; 2.275,-0.325 3.25,-0.325 ; 2.275,0.325 3.25,0.325 ; 2.275,0.975 3.25,0.975 ; 2.275,1.625 3.25,1.625 ; 2.275,2.275 3.25,2.275 ; 2.275,2.925 3.25,2.925 ; 2.275,3.575 3.25,3.575 ; 2.275,4.225 3.25,4.225 ; -2.275,-4.9 -2.275,4.8 2.275,4.8 2.275,-4.9 -2.275,-4.9
3D body: height 1.2, standoff 0.1, extent -2.2,-4.8 2.2,4.7
3D body: height 0.75, standoff 0, extent -3.25,-4.325 -1.552,-4.125
3D body: height 0.75, standoff 0, extent 1.552,-4.325 3.25,-4.125
3D body: height 0.75, standoff 0, extent -3.25,-3.675 -1.552,-3.475
3D body: height 0.75, standoff 0, extent 1.552,-3.675 3.25,-3.475
3D body: height 0.75, standoff 0, extent 1.552,-3.025 3.25,-2.825
3D body: height 0.75, standoff 0, extent -3.25,-3.025 -1.552,-2.825
3D body: height 0.75, standoff 0, extent 1.552,4.125 3.25,4.325
3D body: height 0.75, standoff 0, extent -3.25,4.125 -1.552,4.325
3D body: height 0.75, standoff 0, extent -3.25,3.475 -1.552,3.675
3D body: height 0.75, standoff 0, extent 1.552,3.475 3.25,3.675
3D body: height 0.75, standoff 0, extent 1.552,2.825 3.25,3.025
3D body: height 0.75, standoff 0, extent -3.25,2.825 -1.552,3.025
3D body: height 0.75, standoff 0, extent -3.25,1.525 -1.552,1.725
3D body: height 0.75, standoff 0, extent 1.552,1.525 3.25,1.725
3D body: height 0.75, standoff 0, extent 1.552,2.175 3.25,2.375
3D body: height 0.75, standoff 0, extent -3.25,2.175 -1.552,2.375
3D body: height 0.75, standoff 0, extent -3.25,0.225 -1.552,0.425
3D body: height 0.75, standoff 0, extent 1.552,0.225 3.25,0.425
3D body: height 0.75, standoff 0, extent 1.552,0.875 3.25,1.075
3D body: height 0.75, standoff 0, extent -3.25,0.875 -1.552,1.075
3D body: height 0.75, standoff 0, extent -3.25,-1.075 -1.552,-0.875
3D body: height 0.75, standoff 0, extent 1.552,-1.075 3.25,-0.875
3D body: height 0.75, standoff 0, extent 1.552,-0.425 3.25,-0.225
3D body: height 0.75, standoff 0, extent -3.25,-0.425 -1.552,-0.225
3D body: height 0.75, standoff 0, extent -3.25,-2.375 -1.552,-2.175
3D body: height 0.75, standoff 0, extent 1.552,-2.375 3.25,-2.175
3D body: height 0.75, standoff 0, extent 1.552,-1.725 3.25,-1.525
3D body: height 0.75, standoff 0, extent -3.25,-1.725 -1.552,-1.525

## TSSOP28E-6.4mm [mm] "0.65mm pitch"
height 1.2
pads (29):
  rect 1.2x0.35 smd: 1(-2.925,4.225) 2(-2.925,3.575) 3(-2.925,2.925) 4(-2.925,2.275) 5(-2.925,1.625) 6(-2.925,0.975) 7(-2.925,0.325) 8(-2.925,-0.325) 9(-2.925,-0.975) 10(-2.925,-1.625) 11(-2.925,-2.275) 12(-2.925,-2.925) 13(-2.925,-3.575) 14(-2.925,-4.225) 15(2.925,-4.225) 16(2.925,-3.575) 17(2.925,-2.925) 18(2.925,-2.275) 19(2.925,-1.625) 20(2.925,-0.975) 21(2.925,-0.325) 22(2.925,0.325) 23(2.925,0.975) 24(2.925,1.625) 25(2.925,2.275) 26(2.925,2.925) 27(2.925,3.575) 28(2.925,4.225)
  rect 2x4 smd paste-0.5: EP(0,0)
Top Overlay:
  lines w0.2: -3.1,-4.775 -3.1,-5.425 3.1,-5.425 3.1,-4.775 ; 3.1,4.775 3.1,5.425 -2.5,5.425 ; -2.5,5.425 -3.2,4.725 -3.2,4.7 -2.5,4.7 -2.5,5.425 -2.5,5.425
Mechanical 1:
  circle w0.1: c-1.3,3.575 r0.325
  lines w0.1: -3.25,-4.225 -2.275,-4.225 ; -3.25,-3.575 -2.275,-3.575 ; -3.25,-2.925 -2.275,-2.925 ; -3.25,-2.275 -2.275,-2.275 ; -3.25,-1.625 -2.275,-1.625 ; -3.25,-0.975 -2.275,-0.975 ; -3.25,-0.325 -2.275,-0.325 ; -3.25,0.325 -2.275,0.325 ; -3.25,0.975 -2.275,0.975 ; -3.25,1.625 -2.275,1.625 ; -3.25,2.275 -2.275,2.275 ; -3.25,2.925 -2.275,2.925 ; -3.25,3.575 -2.275,3.575 ; -3.25,4.225 -2.275,4.225 ; 2.275,-4.225 3.25,-4.225 ; 2.275,-3.575 3.25,-3.575 ; 2.275,-2.925 3.25,-2.925 ; 2.275,-2.275 3.25,-2.275 ; 2.275,-1.625 3.25,-1.625 ; 2.275,-0.975 3.25,-0.975 ; 2.275,-0.325 3.25,-0.325 ; 2.275,0.325 3.25,0.325 ; 2.275,0.975 3.25,0.975 ; 2.275,1.625 3.25,1.625 ; 2.275,2.275 3.25,2.275 ; 2.275,2.925 3.25,2.925 ; 2.275,3.575 3.25,3.575 ; 2.275,4.225 3.25,4.225 ; -2.275,-4.9 2.275,-4.9 2.275,4.8 -2.275,4.8 -2.275,-4.9
3D body: height 0.75, standoff 0, extent -3.25,-1.725 -1.552,-1.525
3D body: height 0.75, standoff 0, extent 1.552,-1.725 3.25,-1.525
3D body: height 0.75, standoff 0, extent 1.552,-2.375 3.25,-2.175
3D body: height 0.75, standoff 0, extent -3.25,-2.375 -1.552,-2.175
3D body: height 0.75, standoff 0, extent -3.25,-0.425 -1.552,-0.225
3D body: height 0.75, standoff 0, extent 1.552,-0.425 3.25,-0.225
3D body: height 0.75, standoff 0, extent 1.552,-1.075 3.25,-0.875
3D body: height 0.75, standoff 0, extent -3.25,-1.075 -1.552,-0.875
3D body: height 0.75, standoff 0, extent -3.25,0.875 -1.552,1.075
3D body: height 0.75, standoff 0, extent 1.552,0.875 3.25,1.075
3D body: height 0.75, standoff 0, extent 1.552,0.225 3.25,0.425
3D body: height 0.75, standoff 0, extent -3.25,0.225 -1.552,0.425
3D body: height 0.75, standoff 0, extent -3.25,2.175 -1.552,2.375
3D body: height 0.75, standoff 0, extent 1.552,2.175 3.25,2.375
3D body: height 0.75, standoff 0, extent 1.552,1.525 3.25,1.725
3D body: height 0.75, standoff 0, extent -3.25,1.525 -1.552,1.725
3D body: height 0.75, standoff 0, extent -3.25,2.825 -1.552,3.025
3D body: height 0.75, standoff 0, extent 1.552,2.825 3.25,3.025
3D body: height 0.75, standoff 0, extent 1.552,3.475 3.25,3.675
3D body: height 0.75, standoff 0, extent -3.25,3.475 -1.552,3.675
3D body: height 0.75, standoff 0, extent -3.25,4.125 -1.552,4.325
3D body: height 0.75, standoff 0, extent 1.552,4.125 3.25,4.325
3D body: height 0.75, standoff 0, extent -3.25,-3.025 -1.552,-2.825
3D body: height 0.75, standoff 0, extent 1.552,-3.025 3.25,-2.825
3D body: height 0.75, standoff 0, extent 1.552,-3.675 3.25,-3.475
3D body: height 0.75, standoff 0, extent -3.25,-3.675 -1.552,-3.475
3D body: height 0.75, standoff 0, extent 1.552,-4.325 3.25,-4.125
3D body: height 0.75, standoff 0, extent -3.25,-4.325 -1.552,-4.125
3D body: height 1.2, standoff 0.1, extent -2.2,-4.8 2.2,4.7

## TSSOP56-8mm [mm] "0.65mm pitch"
height 1.2
pads (56):
  rect 1.5x0.3 smd: 1(-3.75,6.75) 2(-3.75,6.25) 3(-3.75,5.75) 4(-3.75,5.25) 5(-3.75,4.75) 6(-3.75,4.25) 7(-3.75,3.75) 8(-3.75,3.25) 9(-3.75,2.75) 10(-3.75,2.25) 11(-3.75,1.75) 12(-3.75,1.25) 13(-3.75,0.75) 14(-3.75,0.25) 15(-3.75,-0.25) 16(-3.75,-0.75) 17(-3.75,-1.25) 18(-3.75,-1.75) 19(-3.75,-2.25) 20(-3.75,-2.75) 21(-3.75,-3.25) 22(-3.75,-3.75) 23(-3.75,-4.25) 24(-3.75,-4.75) 25(-3.75,-5.25) 26(-3.75,-5.75) 27(-3.75,-6.25) 28(-3.75,-6.75) 29(3.75,-6.75) 30(3.75,-6.25) 31(3.75,-5.75) 32(3.75,-5.25) 33(3.75,-4.75) 34(3.75,-4.25) 35(3.75,-3.75) 36(3.75,-3.25) 37(3.75,-2.75) 38(3.75,-2.25) 39(3.75,-1.75) 40(3.75,-1.25) 41(3.75,-0.75) 42(3.75,-0.25) 43(3.75,0.25) 44(3.75,0.75) 45(3.75,1.25) 46(3.75,1.75) 47(3.75,2.25) 48(3.75,2.75) 49(3.75,3.25) 50(3.75,3.75) 51(3.75,4.25) 52(3.75,4.75) 53(3.75,5.25) 54(3.75,5.75) 55(3.75,6.25) 56(3.75,6.75)
Top Overlay:
  lines w0.15: -2.5,6.5 -1.5,7.5 ; -2.5,-7.5 2.5,-7.5 2.5,7.5 -2.5,7.5 -2.5,-7.5
Mechanical 1:
  circle w0.1: c-2,6 r0.325
  lines w0.1: -4.1,-6.75 -3.1,-6.75 ; -4.1,-6.25 -3.1,-6.25 ; -4.1,-5.75 -3.1,-5.75 ; -4.1,-5.25 -3.1,-5.25 ; -4.1,-4.75 -3.1,-4.75 ; -4.1,-4.25 -3.1,-4.25 ; -4.1,-3.75 -3.1,-3.75 ; -4.1,-3.25 -3.1,-3.25 ; -4.1,-2.75 -3.1,-2.75 ; -4.1,-2.25 -3.1,-2.25 ; -4.1,-1.75 -3.1,-1.75 ; -4.1,-1.25 -3.1,-1.25 ; -4.1,-0.75 -3.1,-0.75 ; -4.1,-0.25 -3.1,-0.25 ; -4.1,0.25 -3.1,0.25 ; -4.1,0.75 -3.1,0.75 ; -4.1,1.25 -3.1,1.25 ; -4.1,1.75 -3.1,1.75 ; -4.1,2.25 -3.1,2.25 ; -4.1,2.75 -3.1,2.75 ; -4.1,3.25 -3.1,3.25 ; -4.1,3.75 -3.1,3.75 ; -4.1,4.25 -3.1,4.25 ; -4.1,4.75 -3.1,4.75 ; -4.1,5.25 -3.1,5.25 ; -4.1,5.75 -3.1,5.75 ; -4.1,6.25 -3.1,6.25 ; -4.1,6.75 -3.1,6.75 ; 3.1,-6.75 4.1,-6.75 ; 3.1,-6.25 4.1,-6.25 ; 3.1,-5.75 4.1,-5.75 ; 3.1,-5.25 4.1,-5.25 ; 3.1,-4.75 4.1,-4.75 ; 3.1,-4.25 4.1,-4.25 ; 3.1,-3.75 4.1,-3.75 ; 3.1,-3.25 4.1,-3.25 ; 3.1,-2.75 4.1,-2.75 ; 3.1,-2.25 4.1,-2.25 ; 3.1,-1.75 4.1,-1.75 ; 3.1,-1.25 4.1,-1.25 ; 3.1,-0.75 4.1,-0.75 ; 3.1,-0.25 4.1,-0.25 ; 3.1,0.25 4.1,0.25 ; 3.1,0.75 4.1,0.75 ; 3.1,1.25 4.1,1.25 ; 3.1,1.75 4.1,1.75 ; 3.1,2.25 4.1,2.25 ; 3.1,2.75 4.1,2.75 ; 3.1,3.25 4.1,3.25 ; 3.1,3.75 4.1,3.75 ; 3.1,4.25 4.1,4.25 ; 3.1,4.75 4.1,4.75 ; 3.1,5.25 4.1,5.25 ; 3.1,5.75 4.1,5.75 ; 3.1,6.25 4.1,6.25 ; 3.1,6.75 4.1,6.75 ; -3.1,-7 -3.1,7 3.1,7 3.1,-7 -3.1,-7
3D body: height 0.75, standoff 0, extent 2.426,-6.85 4.124,-6.65
3D body: height 0.75, standoff 0, extent 2.426,-6.35 4.124,-6.15
3D body: height 0.75, standoff 0, extent 2.426,-5.35 4.124,-5.15
3D body: height 0.75, standoff 0, extent 2.426,-5.85 4.124,-5.65
3D body: height 0.75, standoff 0, extent 2.426,-3.85 4.124,-3.65
3D body: height 0.75, standoff 0, extent 2.426,-3.35 4.124,-3.15
3D body: height 0.75, standoff 0, extent 2.426,-4.35 4.124,-4.15
3D body: height 0.75, standoff 0, extent 2.426,-4.85 4.124,-4.65
3D body: height 0.75, standoff 0, extent 2.426,-0.85 4.124,-0.65
3D body: height 0.75, standoff 0, extent 2.426,-0.35 4.124,-0.15
3D body: height 0.75, standoff 0, extent 2.426,0.65 4.124,0.85
3D body: height 0.75, standoff 0, extent 2.426,0.15 4.124,0.35
3D body: height 0.75, standoff 0, extent 2.426,-1.85 4.124,-1.65
3D body: height 0.75, standoff 0, extent 2.426,-1.35 4.124,-1.15
3D body: height 0.75, standoff 0, extent 2.426,-2.35 4.124,-2.15
3D body: height 0.75, standoff 0, extent 2.426,-2.85 4.124,-2.65
3D body: height 0.75, standoff 0, extent 2.426,3.15 4.124,3.35
3D body: height 0.75, standoff 0, extent 2.426,3.65 4.124,3.85
3D body: height 0.75, standoff 0, extent 2.426,4.65 4.124,4.85
3D body: height 0.75, standoff 0, extent 2.426,4.15 4.124,4.35
3D body: height 0.75, standoff 0, extent 2.426,2.15 4.124,2.35
3D body: height 0.75, standoff 0, extent 2.426,2.65 4.124,2.85
3D body: height 0.75, standoff 0, extent 2.426,1.65 4.124,1.85
3D body: height 0.75, standoff 0, extent 2.426,1.15 4.124,1.35
3D body: height 0.75, standoff 0, extent 2.426,6.15 4.124,6.35
3D body: height 0.75, standoff 0, extent 2.426,6.65 4.124,6.85
3D body: height 0.75, standoff 0, extent 2.426,5.65 4.124,5.85
3D body: height 0.75, standoff 0, extent 2.426,5.15 4.124,5.35
3D body: height 0.75, standoff 0, extent -4.124,-5.35 -2.426,-5.15
3D body: height 0.75, standoff 0, extent -4.124,-5.85 -2.426,-5.65
3D body: height 0.75, standoff 0, extent -4.124,-6.85 -2.426,-6.65
3D body: height 0.75, standoff 0, extent -4.124,-6.35 -2.426,-6.15
3D body: height 0.75, standoff 0, extent -4.124,-1.35 -2.426,-1.15
3D body: height 0.75, standoff 0, extent -4.124,-1.85 -2.426,-1.65
3D body: height 0.75, standoff 0, extent -4.124,-2.85 -2.426,-2.65
3D body: height 0.75, standoff 0, extent -4.124,-2.35 -2.426,-2.15
3D body: height 0.75, standoff 0, extent -4.124,-4.35 -2.426,-4.15
3D body: height 0.75, standoff 0, extent -4.124,-4.85 -2.426,-4.65
3D body: height 0.75, standoff 0, extent -4.124,-3.85 -2.426,-3.65
3D body: height 0.75, standoff 0, extent -4.124,-3.35 -2.426,-3.15
3D body: height 0.75, standoff 0, extent -4.124,2.65 -2.426,2.85
3D body: height 0.75, standoff 0, extent -4.124,2.15 -2.426,2.35
3D body: height 0.75, standoff 0, extent -4.124,1.15 -2.426,1.35
3D body: height 0.75, standoff 0, extent -4.124,1.65 -2.426,1.85
3D body: height 0.75, standoff 0, extent -4.124,-0.35 -2.426,-0.15
3D body: height 0.75, standoff 0, extent -4.124,-0.85 -2.426,-0.65
3D body: height 0.75, standoff 0, extent -4.124,0.15 -2.426,0.35
3D body: height 0.75, standoff 0, extent -4.124,0.65 -2.426,0.85
3D body: height 0.75, standoff 0, extent -4.124,4.65 -2.426,4.85
3D body: height 0.75, standoff 0, extent -4.124,4.15 -2.426,4.35
3D body: height 0.75, standoff 0, extent -4.124,3.15 -2.426,3.35
3D body: height 0.75, standoff 0, extent -4.124,3.65 -2.426,3.85
3D body: height 0.75, standoff 0, extent -4.124,5.65 -2.426,5.85
3D body: height 0.75, standoff 0, extent -4.124,5.15 -2.426,5.35
3D body: height 0.75, standoff 0, extent -4.124,6.15 -2.426,6.35
3D body: height 0.75, standoff 0, extent -4.124,6.65 -2.426,6.85
3D body: height 1.2, standoff 0.1, extent -3,-7 3,7